# EAGLE library part PIC18F2620 (library 000001)
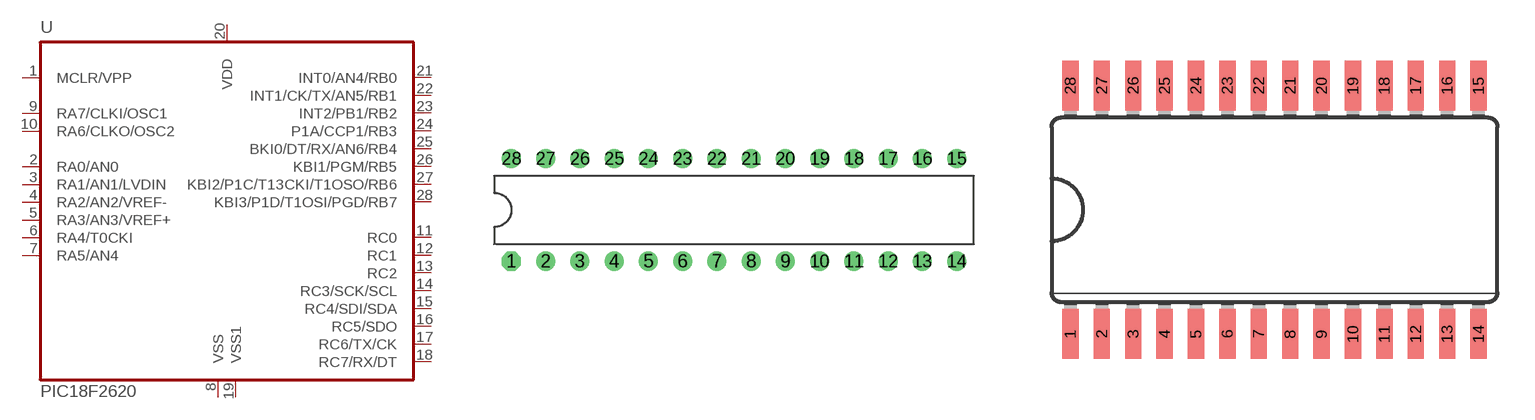
[diagram p8: symbol with the pads of DIL28-3; footprints DIL28-3, SO28W]

Designator prefix -

## PIC18F2620P  [DIL28-3]
1  MCLR/VPP  in
2  RA0/AN0
3  RA1/AN1/LVDIN
4  RA2/AN2/VREF-
5  RA3/AN3/VREF+
6  RA4/T0CKI
7  RA5/AN4
8  VSS  pwr
9  RA7/CLKI/OSC1
10  RA6/CLKO/OSC2
11  RC0
12  RC1
13  RC2
14  RC3/SCK/SCL
15  RC4/SDI/SDA
16  RC5/SDO
17  RC6/TX/CK
18  RC7/RX/DT
19  VSS1  pwr
20  VDD  pwr
21  INT0/AN4/RB0
22  INT1/CK/TX/AN5/RB1
23  INT2/PB1/RB2
24  P1A/CCP1/RB3
25  BKI0/DT/RX/AN6/RB4
26  KBI1/PGM/RB5
27  KBI2/P1C/T13CKI/T1OSO/RB6
28  KBI3/P1D/T1OSI/PGD/RB7

## PIC18F2620  [SO28W]
Pads as for DIL28-3

## Footprint DIL28-3 (pad centres in mm)
Dual In Line package type P
drill 0.7 pad 1.422 octagon: 1 -16.51,-3.81
drill 0.7 pad 1.422 round: 2 -13.97,-3.81; 3 -11.43,-3.81; 4 -8.89,-3.81; 5 -6.35,-3.81; 6 -3.81,-3.81; 7 -1.27,-3.81; 8 1.27,-3.81; 9 3.81,-3.81; 10 6.35,-3.81; 11 8.89,-3.81; 12 11.43,-3.81; 13 13.97,-3.81; 14 16.51,-3.81; 15 16.51,3.81; 16 13.97,3.81; 17 11.43,3.81; 18 8.89,3.81; 19 6.35,3.81; 20 3.81,3.81; 21 1.27,3.81; 22 -1.27,3.81; 23 -3.81,3.81; 24 -6.35,3.81; 25 -8.89,3.81; 26 -11.43,3.81; 27 -13.97,3.81; 28 -16.51,3.81

## Footprint SO28W (pad centres in mm)
smd 0.66 x 2.032: 1 -8.255,-5.029; 2 -6.985,-5.029; 3 -5.715,-5.029; 4 -4.445,-5.029; 5 -3.175,-5.029; 6 -1.905,-5.029; 7 -0.635,-5.029; 8 0.635,-5.029; 9 1.905,-5.029; 10 3.175,-5.029; 11 4.445,-5.029; 12 5.715,-5.029; 13 6.985,-5.029; 14 8.255,-5.029; 15 8.255,5.029; 16 6.985,5.029; 17 5.715,5.029; 18 4.445,5.029; 19 3.175,5.029; 20 1.905,5.029; 21 0.635,5.029; 22 -0.635,5.029; 23 -1.905,5.029; 24 -3.175,5.029; 25 -4.445,5.029; 26 -5.715,5.029; 27 -6.985,5.029; 28 -8.255,5.029